# Altium integrated library Analog Devices Data Converters Digital-to-Analog Converters.IntLib: 2231 symbols (part 154 of 181)
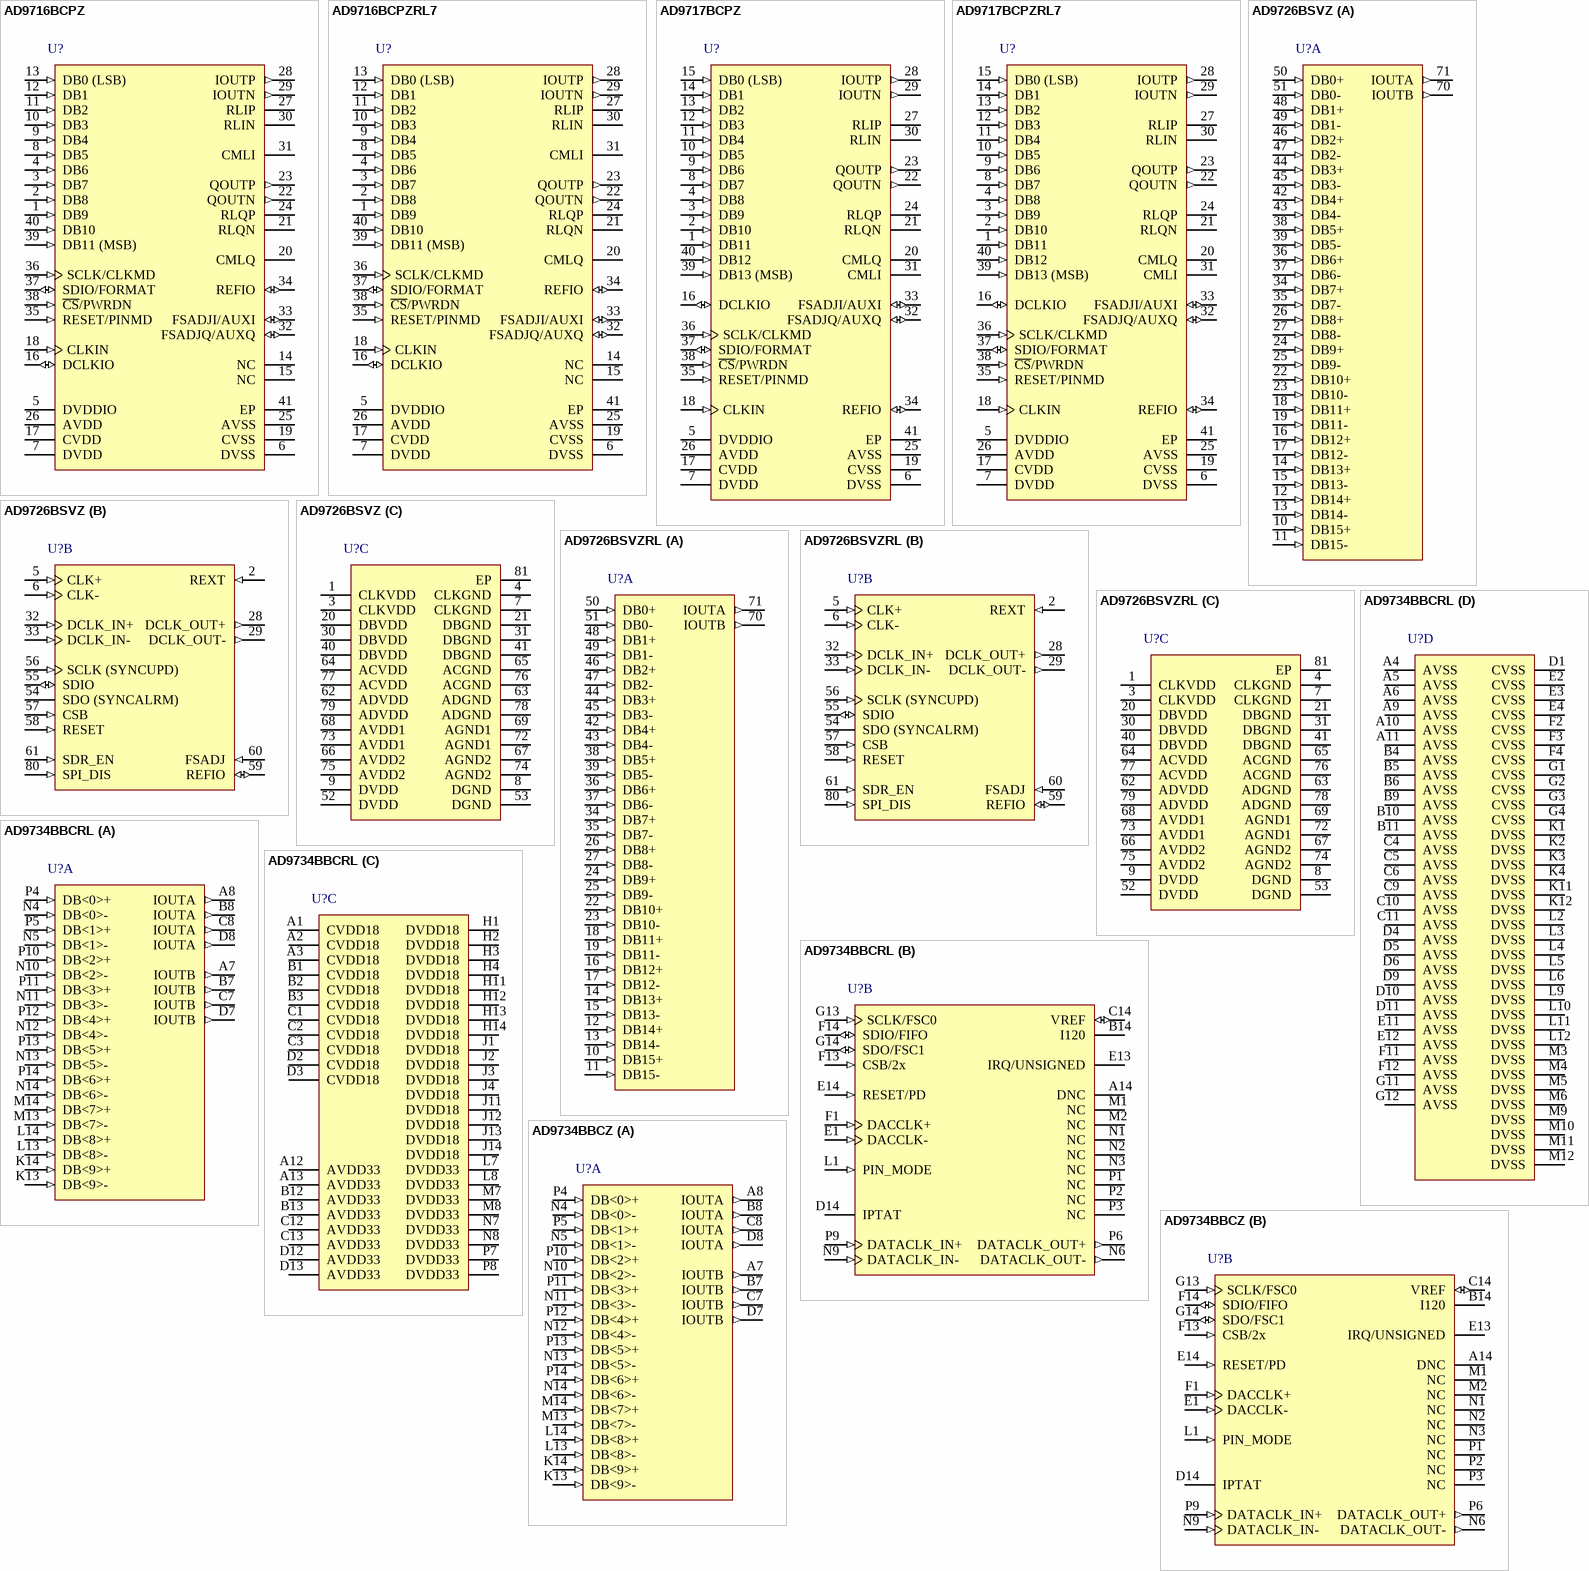
[diagram p267: symbols AD9716BCPZ to AD9734BBCZ]

## AD9734BBCRL
designator U?
Single 10-Bit Digital-to-Analog Converter, 1200 Msps, -40 to +85 degC, BC-160-1, Reel; Generic Part Number: AD9734; Manufacturer: Analog Devices; PartNumber: AD9734BBCRL; # DAC Outputs: 1; Max V+: 3.47V; Op Pwr Diss: 550mW; Resolution (Bits): 10; Single Supply: Yes; DatasheetVersion: Rev.A; PackageVersion: 012006-0; PackageReference: BC-160-1; PackageDescription: 160-Ball Chip Scale Package Ball Grid Array [CSP_BGA]; Packing: Reel; RoHS: N; Mounting Technology: Surface Mount; Code_JEDEC: MO-205-AE; ComponentLink1Description: Manufacturer URL; ComponentLink1URL: http://www.analog.com/en/index.html; ComponentLink2Description: Datasheet; ComponentLink2URL: http://www.analog.com/static/imported-files/data_sheets/AD9734_9735_9736.pdf; ComponentLink3Description: Package Specification; ComponentLink3URL: http://www.analog.com/static/imported-files/packages/31243239490197BC_160_1.pdf; ComponentLink4Description: Product URL; ComponentLink4URL: http://www.analog.com/en/digital-to-analog-converters/da-converters/ad9734/products/product.html
footprint BC-160-1 (BGA, 160-Leads, Body 12x12mm, Pitch 0.8mm)
part A pins: A7 IOUTB (out) "DAC Negative Output. 10 mA to 30 mA full-scale output current.", A8 IOUTA (out) "DAC Positive Output. 10 mA to 30 mA full-scale output current.", B7 IOUTB (out) "DAC Negative Output. 10 mA to 30 mA full-scale output current.", B8 IOUTA (out) "DAC Positive Output. 10 mA to 30 mA full-scale output current.", C7 IOUTB (out) "DAC Negative Output. 10 mA to 30 mA full-scale output current.", C8 IOUTA (out) "DAC Positive Output. 10 mA to 30 mA full-scale output current.", D7 IOUTB (out) "DAC Negative Output. 10 mA to 30 mA full-scale output current.", D8 IOUTA (out) "DAC Positive Output. 10 mA to 30 mA full-scale output current.", K13 DB<9>- (in) "Negative Data Input Bit 9 (MSB). Conforms to IEEE-1596 reduced range link.", K14 DB<9>+ (in) "Positive Data Input Bit 9 (MSB). Conforms to IEEE-1596 reduced range link.", L13 DB<8>- (in) "Negative Data Input Bit 8. Conforms to IEEE-1596 reduced range link.", L14 DB<8>+ (in) "Positive Data Input Bit 8. Conforms to IEEE-1596 reduced range link.", M13 DB<7>- (in) "Negative Data Input Bit 7. Conforms to IEEE-1596 reduced range link.", M14 DB<7>+ (in) "Positive Data Input Bit 7. Conforms to IEEE-1596 reduced range link.", N4 DB<0>- (in) "Negative Data Input Bit 0 (LSB). Conforms to IEEE-1596 reduced range link.", N5 DB<1>- (in) "Negative Data Input Bit 1. Conforms to IEEE-1596 reduced range link.", N10 DB<2>- (in) "Negative Data Input Bit 2. Conforms to IEEE-1596 reduced range link.", N11 DB<3>- (in) "Negative Data Input Bit 3. Conforms to IEEE-1596 reduced range link.", N12 DB<4>- (in) "Negative Data Input Bit 4. Conforms to IEEE-1596 reduced range link.", N13 DB<5>- (in) "Negative Data Input Bit 5. Conforms to IEEE-1596 reduced range link.", N14 DB<6>- (in) "Negative Data Input Bit 6. Conforms to IEEE-1596 reduced range link.", P4 DB<0>+ (in) "Positive Data Input Bit 0 (LSB). Conforms to IEEE-1596 reduced range link.", P5 DB<1>+ (in) "Positive Data Input Bit 1. Conforms to IEEE-1596 reduced range link.", P10 DB<2>+ (in) "Positive Data Input Bit 2. Conforms to IEEE-1596 reduced range link.", P11 DB<3>+ (in) "Positive Data Input Bit 3. Conforms to IEEE-1596 reduced range link.", P12 DB<4>+ (in) "Positive Data Input Bit 4. Conforms to IEEE-1596 reduced range link.", P13 DB<5>+ (in) "Positive Data Input Bit 5. Conforms to IEEE-1596 reduced range link.", P14 DB<6>+ (in) "Positive Data Input Bit 6. Conforms to IEEE-1596 reduced range link."
part B pins: A14 DNC "Do Not Connect.", B14 I120 "Nominal 1.2 V Reference. Tie to analog ground via 10 kohm resistor to generate a 120 uA reference current.", C14 VREF (io) "Band Gap Voltage Reference I/O. Tie to analog ground via 1 nF capacitor; output impedance approximately 5 kohm.", D14 IPTAT "Factory Test Pin. Output current, proportional to absolute temperature, is approximately 10 uA at 25degreesC with a slope of approximately 20 nA/degreesC.", E1 DACCLK- (in) "Negative DAC Clock Input (DACCLK).", E13 IRQ/UNSIGNED (oc) "If PIN_MODE = 0, IRQ: Active low open-drain interrupt request output, pull up to DVDD33 with 10 kohm resistor. If PIN_MODE = 1, UNSIGNED: Digital input pin where 0 = twos complement input data format, 1 = unsigned.", E14 RESET/PD (in) "If PIN_MODE = 0, RESET: 1 resets the AD9734. If PIN_MODE = 1, PD: 1 puts the AD9734 in the power-down state.", F1 DACCLK+ (in) "Positive DAC Clock Input (DACCLK).", F13 CSB/2x (in) "See the Serial Peripheral Interface section and the Pin Mode Operation section for pin description.", F14 SDIO/FIFO (io) "See the Pin Mode Operation section for pin description.", G13 SCLK/FSC0 (in) "See the Pin Mode Operation section for pin description.", G14 SDO/FSC1 (io) "See the Pin Mode Operation section for pin description.", L1 PIN_MODE (in) "0 = SPI Mode. SPI is enabled. 1 = PIN Mode. SPI is disabled; direct pin control.", M1 NC "No Connect.", M2 NC "No Connect.", N1 NC "No Connect.", N2 NC "No Connect.", N3 NC "No Connect.", N6 DATACLK_OUT- (out) "Negative Data Output Clock. Conforms to IEEE-1596 reduced range link.", N9 DATACLK_IN- (in) "Negative Data Input Clock. Conforms to IEEE-1596 reduced range link.", P1 NC "No Connect.", P2 NC "No Connect.", P3 NC "No Connect.", P6 DATACLK_OUT+ (out) "Positive Data Output Clock. Conforms to IEEE-1596 reduced range link.", P9 DATACLK_IN+ (in) "Positive Data Input Clock. Conforms to IEEE-1596 reduced range link."
part C pins: A1 CVDD18 (power) "1.8 V Clock Supply.", A2 CVDD18 (power) "1.8 V Clock Supply.", A3 CVDD18 (power) "1.8 V Clock Supply.", A12 AVDD33 (power) "3.3 V Analog Supply.", A13 AVDD33 (power) "3.3 V Analog Supply.", B1 CVDD18 (power) "1.8 V Clock Supply.", B2 CVDD18 (power) "1.8 V Clock Supply.", B3 CVDD18 (power) "1.8 V Clock Supply.", B12 AVDD33 (power) "3.3 V Analog Supply.", B13 AVDD33 (power) "3.3 V Analog Supply.", C1 CVDD18 (power) "1.8 V Clock Supply.", C2 CVDD18 (power) "1.8 V Clock Supply.", C3 CVDD18 (power) "1.8 V Clock Supply.", C12 AVDD33 (power) "3.3 V Analog Supply.", C13 AVDD33 (power) "3.3 V Analog Supply.", D2 CVDD18 (power) "1.8 V Clock Supply.", D3 CVDD18 (power) "1.8 V Clock Supply.", D12 AVDD33 (power) "3.3 V Analog Supply.", D13 AVDD33 (power) "3.3 V Analog Supply.", H1 DVDD18 (power) "1.8 V Digital Supply.", H2 DVDD18 (power) "1.8 V Digital Supply.", H3 DVDD18 (power) "1.8 V Digital Supply.", H4 DVDD18 (power) "1.8 V Digital Supply.", H11 DVDD18 (power) "1.8 V Digital Supply.", H12 DVDD18 (power) "1.8 V Digital Supply.", H13 DVDD18 (power) "1.8 V Digital Supply.", H14 DVDD18 (power) "1.8 V Digital Supply.", J1 DVDD18 (power) "1.8 V Digital Supply.", J2 DVDD18 (power) "1.8 V Digital Supply.", J3 DVDD18 (power) "1.8 V Digital Supply.", J4 DVDD18 (power) "1.8 V Digital Supply.", J11 DVDD18 (power) "1.8 V Digital Supply.", J12 DVDD18 (power) "1.8 V Digital Supply.", J13 DVDD18 (power) "1.8 V Digital Supply.", J14 DVDD18 (power) "1.8 V Digital Supply.", L7 DVDD33 (power) "3.3 V Digital Supply.", L8 DVDD33 (power) "3.3 V Digital Supply.", M7 DVDD33 (power) "3.3 V Digital Supply.", M8 DVDD33 (power) "3.3 V Digital Supply.", N7 DVDD33 (power) "3.3 V Digital Supply.", N8 DVDD33 (power) "3.3 V Digital Supply.", P7 DVDD33 (power) "3.3 V Digital Supply.", P8 DVDD33 (power) "3.3 V Digital Supply."
part D pins: A4 AVSS (power) "Analog Supply Ground.", A5 AVSS (power) "Analog Supply Ground.", A6 AVSS (power) "Analog Supply Ground.", A9 AVSS (power) "Analog Supply Ground.", A10 AVSS (power) "Analog Supply Ground.", A11 AVSS (power) "Analog Supply Ground.", B4 AVSS (power) "Analog Supply Ground.", B5 AVSS (power) "Analog Supply Ground.", B6 AVSS (power) "Analog Supply Ground.", B9 AVSS (power) "Analog Supply Ground.", B10 AVSS (power) "Analog Supply Ground.", B11 AVSS (power) "Analog Supply Ground.", C4 AVSS (power) "Analog Supply Ground.", C5 AVSS (power) "Analog Supply Ground.", C6 AVSS (power) "Analog Supply Ground.", C9 AVSS (power) "Analog Supply Ground.", C10 AVSS (power) "Analog Supply Ground.", C11 AVSS (power) "Analog Supply Ground.", D1 CVSS (power) "Clock Supply Ground.", D4 AVSS (power) "Analog Supply Ground.", D5 AVSS (power) "Analog Supply Ground.", D6 AVSS (power) "Analog Supply Ground.", D9 AVSS (power) "Analog Supply Ground.", D10 AVSS (power) "Analog Supply Ground.", D11 AVSS (power) "Analog Supply Ground.", E2 CVSS (power) "Clock Supply Ground.", E3 CVSS (power) "Clock Supply Ground.", E4 CVSS (power) "Clock Supply Ground.", E11 AVSS (power) "Analog Supply Ground Shield. Tie to AVSS at the DAC.", E12 AVSS (power) "Analog Supply Ground Shield. Tie to AVSS at the DAC.", F2 CVSS (power) "Clock Supply Ground.", F3 CVSS (power) "Clock Supply Ground.", F4 CVSS (power) "Clock Supply Ground.", F11 AVSS (power) "Analog Supply Ground Shield. Tie to AVSS at the DAC.", F12 AVSS (power) "Analog Supply Ground Shield. Tie to AVSS at the DAC.", G1 CVSS (power) "Clock Supply Ground.", G2 CVSS (power) "Clock Supply Ground.", G3 CVSS (power) "Clock Supply Ground.", G4 CVSS (power) "Clock Supply Ground.", G11 AVSS (power) "Analog Supply Ground Shield. Tie to AVSS at the DAC.", G12 AVSS (power) "Analog Supply Ground Shield. Tie to AVSS at the DAC.", K1 DVSS (power) "Digital Supply Ground.", K2 DVSS (power) "Digital Supply Ground.", K3 DVSS (power) "Digital Supply Ground.", K4 DVSS (power) "Digital Supply Ground.", K11 DVSS (power) "Digital Supply Ground.", K12 DVSS (power) "Digital Supply Ground.", L2 DVSS (power) "Digital Supply Ground.", L3 DVSS (power) "Digital Supply Ground.", L4 DVSS (power) "Digital Supply Ground.", L5 DVSS (power) "Digital Supply Ground.", L6 DVSS (power) "Digital Supply Ground.", L9 DVSS (power) "Digital Supply Ground.", L10 DVSS (power) "Digital Supply Ground.", L11 DVSS (power) "Digital Supply Ground.", L12 DVSS (power) "Digital Supply Ground.", M3 DVSS (power) "Digital Supply Ground.", M4 DVSS (power) "Digital Supply Ground.", M5 DVSS (power) "Digital Supply Ground.", M6 DVSS (power) "Digital Supply Ground.", M9 DVSS (power) "Digital Supply Ground.", M10 DVSS (power) "Digital Supply Ground.", M11 DVSS (power) "Digital Supply Ground.", M12 DVSS (power) "Digital Supply Ground."

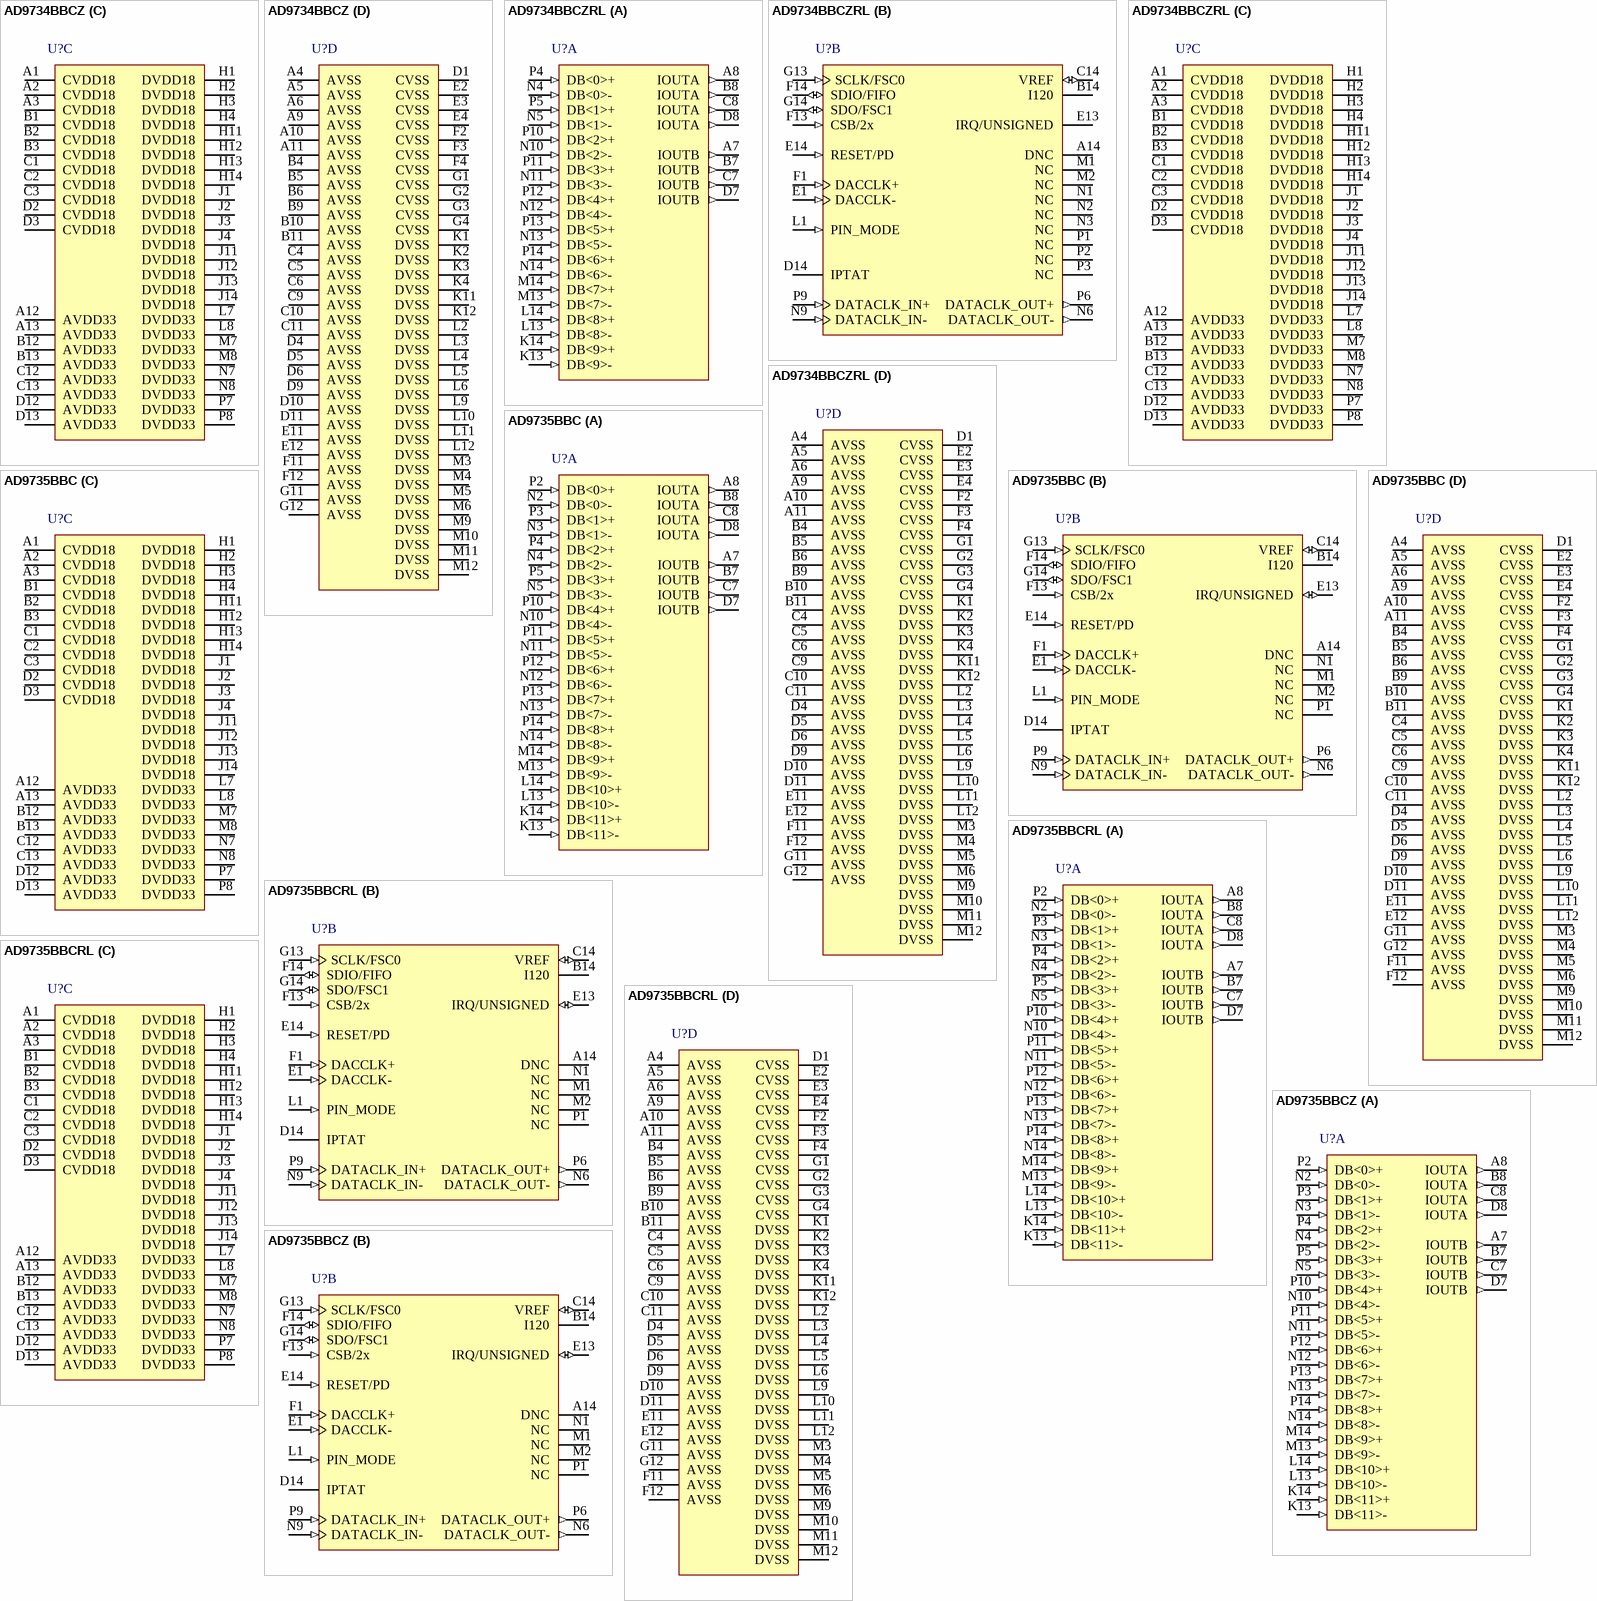
[diagram p89: symbols AD9734BBCZ to AD9735BBCZ]

## AD9734BBCZ
designator U?
Single 10-Bit Digital-to-Analog Converter, 1200 Msps, -40 to +85 degC, BC-160-1, Pb-Free, Tray; Generic Part Number: AD9734; Manufacturer: Analog Devices; PartNumber: AD9734BBCZ; # DAC Outputs: 1; Max V+: 3.47V; Op Pwr Diss: 550mW; Resolution (Bits): 10; Single Supply: Yes; DatasheetVersion: Rev.A; PackageVersion: 012006-0; PackageReference: BC-160-1; PackageDescription: 160-Ball Chip Scale Package Ball Grid Array [CSP_BGA]; Supplier 1: Digi-Key; Supplier Part Number 1: AD9734BBCZ-ND; Supplier 2: Mouser; Supplier Part Number 2: 584-AD9734BBCZ; Packing: Tray; RoHS: Y; Mounting Technology: Surface Mount; Code_JEDEC: MO-205-AE; ComponentLink1Description: Manufacturer URL; ComponentLink1URL: http://www.analog.com/en/index.html; ComponentLink2Description: Datasheet; ComponentLink2URL: http://www.analog.com/static/imported-files/data_sheets/AD9734_9735_9736.pdf; ComponentLink3Description: Package Specification; ComponentLink3URL: http://www.analog.com/static/imported-files/packages/31243239490197BC_160_1.pdf; ComponentLink4Description: Product URL; ComponentLink4URL: http://www.analog.com/en/digital-to-analog-converters/da-converters/ad9734/products/product.html
footprint BC-160-1 (BGA, 160-Leads, Body 12x12mm, Pitch 0.8mm)
part A pins: A7 IOUTB (out) "DAC Negative Output. 10 mA to 30 mA full-scale output current.", A8 IOUTA (out) "DAC Positive Output. 10 mA to 30 mA full-scale output current.", B7 IOUTB (out) "DAC Negative Output. 10 mA to 30 mA full-scale output current.", B8 IOUTA (out) "DAC Positive Output. 10 mA to 30 mA full-scale output current.", C7 IOUTB (out) "DAC Negative Output. 10 mA to 30 mA full-scale output current.", C8 IOUTA (out) "DAC Positive Output. 10 mA to 30 mA full-scale output current.", D7 IOUTB (out) "DAC Negative Output. 10 mA to 30 mA full-scale output current.", D8 IOUTA (out) "DAC Positive Output. 10 mA to 30 mA full-scale output current.", K13 DB<9>- (in) "Negative Data Input Bit 9 (MSB). Conforms to IEEE-1596 reduced range link.", K14 DB<9>+ (in) "Positive Data Input Bit 9 (MSB). Conforms to IEEE-1596 reduced range link.", L13 DB<8>- (in) "Negative Data Input Bit 8. Conforms to IEEE-1596 reduced range link.", L14 DB<8>+ (in) "Positive Data Input Bit 8. Conforms to IEEE-1596 reduced range link.", M13 DB<7>- (in) "Negative Data Input Bit 7. Conforms to IEEE-1596 reduced range link.", M14 DB<7>+ (in) "Positive Data Input Bit 7. Conforms to IEEE-1596 reduced range link.", N4 DB<0>- (in) "Negative Data Input Bit 0 (LSB). Conforms to IEEE-1596 reduced range link.", N5 DB<1>- (in) "Negative Data Input Bit 1. Conforms to IEEE-1596 reduced range link.", N10 DB<2>- (in) "Negative Data Input Bit 2. Conforms to IEEE-1596 reduced range link.", N11 DB<3>- (in) "Negative Data Input Bit 3. Conforms to IEEE-1596 reduced range link.", N12 DB<4>- (in) "Negative Data Input Bit 4. Conforms to IEEE-1596 reduced range link.", N13 DB<5>- (in) "Negative Data Input Bit 5. Conforms to IEEE-1596 reduced range link.", N14 DB<6>- (in) "Negative Data Input Bit 6. Conforms to IEEE-1596 reduced range link.", P4 DB<0>+ (in) "Positive Data Input Bit 0 (LSB). Conforms to IEEE-1596 reduced range link.", P5 DB<1>+ (in) "Positive Data Input Bit 1. Conforms to IEEE-1596 reduced range link.", P10 DB<2>+ (in) "Positive Data Input Bit 2. Conforms to IEEE-1596 reduced range link.", P11 DB<3>+ (in) "Positive Data Input Bit 3. Conforms to IEEE-1596 reduced range link.", P12 DB<4>+ (in) "Positive Data Input Bit 4. Conforms to IEEE-1596 reduced range link.", P13 DB<5>+ (in) "Positive Data Input Bit 5. Conforms to IEEE-1596 reduced range link.", P14 DB<6>+ (in) "Positive Data Input Bit 6. Conforms to IEEE-1596 reduced range link."
part B pins: A14 DNC "Do Not Connect.", B14 I120 "Nominal 1.2 V Reference. Tie to analog ground via 10 kohm resistor to generate a 120 uA reference current.", C14 VREF (io) "Band Gap Voltage Reference I/O. Tie to analog ground via 1 nF capacitor; output impedance approximately 5 kohm.", D14 IPTAT "Factory Test Pin. Output current, proportional to absolute temperature, is approximately 10 uA at 25degreesC with a slope of approximately 20 nA/degreesC.", E1 DACCLK- (in) "Negative DAC Clock Input (DACCLK).", E13 IRQ/UNSIGNED (oc) "If PIN_MODE = 0, IRQ: Active low open-drain interrupt request output, pull up to DVDD33 with 10 kohm resistor. If PIN_MODE = 1, UNSIGNED: Digital input pin where 0 = twos complement input data format, 1 = unsigned.", E14 RESET/PD (in) "If PIN_MODE = 0, RESET: 1 resets the AD9734. If PIN_MODE = 1, PD: 1 puts the AD9734 in the power-down state.", F1 DACCLK+ (in) "Positive DAC Clock Input (DACCLK).", F13 CSB/2x (in) "See the Serial Peripheral Interface section and the Pin Mode Operation section for pin description.", F14 SDIO/FIFO (io) "See the Pin Mode Operation section for pin description.", G13 SCLK/FSC0 (in) "See the Pin Mode Operation section for pin description.", G14 SDO/FSC1 (io) "See the Pin Mode Operation section for pin description.", L1 PIN_MODE (in) "0 = SPI Mode. SPI is enabled. 1 = PIN Mode. SPI is disabled; direct pin control.", M1 NC "No Connect.", M2 NC "No Connect.", N1 NC "No Connect.", N2 NC "No Connect.", N3 NC "No Connect.", N6 DATACLK_OUT- (out) "Negative Data Output Clock. Conforms to IEEE-1596 reduced range link.", N9 DATACLK_IN- (in) "Negative Data Input Clock. Conforms to IEEE-1596 reduced range link.", P1 NC "No Connect.", P2 NC "No Connect.", P3 NC "No Connect.", P6 DATACLK_OUT+ (out) "Positive Data Output Clock. Conforms to IEEE-1596 reduced range link.", P9 DATACLK_IN+ (in) "Positive Data Input Clock. Conforms to IEEE-1596 reduced range link."
part C pins: A1 CVDD18 (power) "1.8 V Clock Supply.", A2 CVDD18 (power) "1.8 V Clock Supply.", A3 CVDD18 (power) "1.8 V Clock Supply.", A12 AVDD33 (power) "3.3 V Analog Supply.", A13 AVDD33 (power) "3.3 V Analog Supply.", B1 CVDD18 (power) "1.8 V Clock Supply.", B2 CVDD18 (power) "1.8 V Clock Supply.", B3 CVDD18 (power) "1.8 V Clock Supply.", B12 AVDD33 (power) "3.3 V Analog Supply.", B13 AVDD33 (power) "3.3 V Analog Supply.", C1 CVDD18 (power) "1.8 V Clock Supply.", C2 CVDD18 (power) "1.8 V Clock Supply.", C3 CVDD18 (power) "1.8 V Clock Supply.", C12 AVDD33 (power) "3.3 V Analog Supply.", C13 AVDD33 (power) "3.3 V Analog Supply.", D2 CVDD18 (power) "1.8 V Clock Supply.", D3 CVDD18 (power) "1.8 V Clock Supply.", D12 AVDD33 (power) "3.3 V Analog Supply.", D13 AVDD33 (power) "3.3 V Analog Supply.", H1 DVDD18 (power) "1.8 V Digital Supply.", H2 DVDD18 (power) "1.8 V Digital Supply.", H3 DVDD18 (power) "1.8 V Digital Supply.", H4 DVDD18 (power) "1.8 V Digital Supply.", H11 DVDD18 (power) "1.8 V Digital Supply.", H12 DVDD18 (power) "1.8 V Digital Supply.", H13 DVDD18 (power) "1.8 V Digital Supply.", H14 DVDD18 (power) "1.8 V Digital Supply.", J1 DVDD18 (power) "1.8 V Digital Supply.", J2 DVDD18 (power) "1.8 V Digital Supply.", J3 DVDD18 (power) "1.8 V Digital Supply.", J4 DVDD18 (power) "1.8 V Digital Supply.", J11 DVDD18 (power) "1.8 V Digital Supply.", J12 DVDD18 (power) "1.8 V Digital Supply.", J13 DVDD18 (power) "1.8 V Digital Supply.", J14 DVDD18 (power) "1.8 V Digital Supply.", L7 DVDD33 (power) "3.3 V Digital Supply.", L8 DVDD33 (power) "3.3 V Digital Supply.", M7 DVDD33 (power) "3.3 V Digital Supply.", M8 DVDD33 (power) "3.3 V Digital Supply.", N7 DVDD33 (power) "3.3 V Digital Supply.", N8 DVDD33 (power) "3.3 V Digital Supply.", P7 DVDD33 (power) "3.3 V Digital Supply.", P8 DVDD33 (power) "3.3 V Digital Supply."
part D pins: A4 AVSS (power) "Analog Supply Ground.", A5 AVSS (power) "Analog Supply Ground.", A6 AVSS (power) "Analog Supply Ground.", A9 AVSS (power) "Analog Supply Ground.", A10 AVSS (power) "Analog Supply Ground.", A11 AVSS (power) "Analog Supply Ground.", B4 AVSS (power) "Analog Supply Ground.", B5 AVSS (power) "Analog Supply Ground.", B6 AVSS (power) "Analog Supply Ground.", B9 AVSS (power) "Analog Supply Ground.", B10 AVSS (power) "Analog Supply Ground.", B11 AVSS (power) "Analog Supply Ground.", C4 AVSS (power) "Analog Supply Ground.", C5 AVSS (power) "Analog Supply Ground.", C6 AVSS (power) "Analog Supply Ground.", C9 AVSS (power) "Analog Supply Ground.", C10 AVSS (power) "Analog Supply Ground.", C11 AVSS (power) "Analog Supply Ground.", D1 CVSS (power) "Clock Supply Ground.", D4 AVSS (power) "Analog Supply Ground.", D5 AVSS (power) "Analog Supply Ground.", D6 AVSS (power) "Analog Supply Ground.", D9 AVSS (power) "Analog Supply Ground.", D10 AVSS (power) "Analog Supply Ground.", D11 AVSS (power) "Analog Supply Ground.", E2 CVSS (power) "Clock Supply Ground.", E3 CVSS (power) "Clock Supply Ground.", E4 CVSS (power) "Clock Supply Ground.", E11 AVSS (power) "Analog Supply Ground Shield. Tie to AVSS at the DAC.", E12 AVSS (power) "Analog Supply Ground Shield. Tie to AVSS at the DAC.", F2 CVSS (power) "Clock Supply Ground.", F3 CVSS (power) "Clock Supply Ground.", F4 CVSS (power) "Clock Supply Ground.", F11 AVSS (power) "Analog Supply Ground Shield. Tie to AVSS at the DAC.", F12 AVSS (power) "Analog Supply Ground Shield. Tie to AVSS at the DAC.", G1 CVSS (power) "Clock Supply Ground.", G2 CVSS (power) "Clock Supply Ground.", G3 CVSS (power) "Clock Supply Ground.", G4 CVSS (power) "Clock Supply Ground.", G11 AVSS (power) "Analog Supply Ground Shield. Tie to AVSS at the DAC.", G12 AVSS (power) "Analog Supply Ground Shield. Tie to AVSS at the DAC.", K1 DVSS (power) "Digital Supply Ground.", K2 DVSS (power) "Digital Supply Ground.", K3 DVSS (power) "Digital Supply Ground.", K4 DVSS (power) "Digital Supply Ground.", K11 DVSS (power) "Digital Supply Ground.", K12 DVSS (power) "Digital Supply Ground.", L2 DVSS (power) "Digital Supply Ground.", L3 DVSS (power) "Digital Supply Ground.", L4 DVSS (power) "Digital Supply Ground.", L5 DVSS (power) "Digital Supply Ground.", L6 DVSS (power) "Digital Supply Ground.", L9 DVSS (power) "Digital Supply Ground.", L10 DVSS (power) "Digital Supply Ground.", L11 DVSS (power) "Digital Supply Ground.", L12 DVSS (power) "Digital Supply Ground.", M3 DVSS (power) "Digital Supply Ground.", M4 DVSS (power) "Digital Supply Ground.", M5 DVSS (power) "Digital Supply Ground.", M6 DVSS (power) "Digital Supply Ground.", M9 DVSS (power) "Digital Supply Ground.", M10 DVSS (power) "Digital Supply Ground.", M11 DVSS (power) "Digital Supply Ground.", M12 DVSS (power) "Digital Supply Ground."

## AD9734BBCZRL
designator U?
Single 10-Bit Digital-to-Analog Converter, 1200 Msps, -40 to +85 degC, BC-160-1, Pb-Free, Reel; Generic Part Number: AD9734; Manufacturer: Analog Devices; PartNumber: AD9734BBCZRL; # DAC Outputs: 1; Max V+: 3.47V; Op Pwr Diss: 550mW; Resolution (Bits): 10; Single Supply: Yes; DatasheetVersion: Rev.A; PackageVersion: 012006-0; PackageReference: BC-160-1; PackageDescription: 160-Ball Chip Scale Package Ball Grid Array [CSP_BGA]; Supplier 1: Digi-Key; Supplier Part Number 1: AD9734BBCZRL-ND; Supplier 2: Mouser; Supplier Part Number 2: 584-AD9734BBCZR; Packing: Reel; RoHS: Y; Mounting Technology: Surface Mount; Code_JEDEC: MO-205-AE; ComponentLink1Description: Manufacturer URL; ComponentLink1URL: http://www.analog.com/en/index.html; ComponentLink2Description: Datasheet; ComponentLink2URL: http://www.analog.com/static/imported-files/data_sheets/AD9734_9735_9736.pdf; ComponentLink3Description: Package Specification; ComponentLink3URL: http://www.analog.com/static/imported-files/packages/31243239490197BC_160_1.pdf; ComponentLink4Description: Product URL; ComponentLink4URL: http://www.analog.com/en/digital-to-analog-converters/da-converters/ad9734/products/product.html
footprint BC-160-1 (BGA, 160-Leads, Body 12x12mm, Pitch 0.8mm)
part A pins: A7 IOUTB (out) "DAC Negative Output. 10 mA to 30 mA full-scale output current.", A8 IOUTA (out) "DAC Positive Output. 10 mA to 30 mA full-scale output current.", B7 IOUTB (out) "DAC Negative Output. 10 mA to 30 mA full-scale output current.", B8 IOUTA (out) "DAC Positive Output. 10 mA to 30 mA full-scale output current.", C7 IOUTB (out) "DAC Negative Output. 10 mA to 30 mA full-scale output current.", C8 IOUTA (out) "DAC Positive Output. 10 mA to 30 mA full-scale output current.", D7 IOUTB (out) "DAC Negative Output. 10 mA to 30 mA full-scale output current.", D8 IOUTA (out) "DAC Positive Output. 10 mA to 30 mA full-scale output current.", K13 DB<9>- (in) "Negative Data Input Bit 9 (MSB). Conforms to IEEE-1596 reduced range link.", K14 DB<9>+ (in) "Positive Data Input Bit 9 (MSB). Conforms to IEEE-1596 reduced range link.", L13 DB<8>- (in) "Negative Data Input Bit 8. Conforms to IEEE-1596 reduced range link.", L14 DB<8>+ (in) "Positive Data Input Bit 8. Conforms to IEEE-1596 reduced range link.", M13 DB<7>- (in) "Negative Data Input Bit 7. Conforms to IEEE-1596 reduced range link.", M14 DB<7>+ (in) "Positive Data Input Bit 7. Conforms to IEEE-1596 reduced range link.", N4 DB<0>- (in) "Negative Data Input Bit 0 (LSB). Conforms to IEEE-1596 reduced range link.", N5 DB<1>- (in) "Negative Data Input Bit 1. Conforms to IEEE-1596 reduced range link.", N10 DB<2>- (in) "Negative Data Input Bit 2. Conforms to IEEE-1596 reduced range link.", N11 DB<3>- (in) "Negative Data Input Bit 3. Conforms to IEEE-1596 reduced range link.", N12 DB<4>- (in) "Negative Data Input Bit 4. Conforms to IEEE-1596 reduced range link.", N13 DB<5>- (in) "Negative Data Input Bit 5. Conforms to IEEE-1596 reduced range link.", N14 DB<6>- (in) "Negative Data Input Bit 6. Conforms to IEEE-1596 reduced range link.", P4 DB<0>+ (in) "Positive Data Input Bit 0 (LSB). Conforms to IEEE-1596 reduced range link.", P5 DB<1>+ (in) "Positive Data Input Bit 1. Conforms to IEEE-1596 reduced range link.", P10 DB<2>+ (in) "Positive Data Input Bit 2. Conforms to IEEE-1596 reduced range link.", P11 DB<3>+ (in) "Positive Data Input Bit 3. Conforms to IEEE-1596 reduced range link.", P12 DB<4>+ (in) "Positive Data Input Bit 4. Conforms to IEEE-1596 reduced range link.", P13 DB<5>+ (in) "Positive Data Input Bit 5. Conforms to IEEE-1596 reduced range link.", P14 DB<6>+ (in) "Positive Data Input Bit 6. Conforms to IEEE-1596 reduced range link."
part B pins: A14 DNC "Do Not Connect.", B14 I120 "Nominal 1.2 V Reference. Tie to analog ground via 10 kohm resistor to generate a 120 uA reference current.", C14 VREF (io) "Band Gap Voltage Reference I/O. Tie to analog ground via 1 nF capacitor; output impedance approximately 5 kohm.", D14 IPTAT "Factory Test Pin. Output current, proportional to absolute temperature, is approximately 10 uA at 25degreesC with a slope of approximately 20 nA/degreesC.", E1 DACCLK- (in) "Negative DAC Clock Input (DACCLK).", E13 IRQ/UNSIGNED (oc) "If PIN_MODE = 0, IRQ: Active low open-drain interrupt request output, pull up to DVDD33 with 10 kohm resistor. If PIN_MODE = 1, UNSIGNED: Digital input pin where 0 = twos complement input data format, 1 = unsigned.", E14 RESET/PD (in) "If PIN_MODE = 0, RESET: 1 resets the AD9734. If PIN_MODE = 1, PD: 1 puts the AD9734 in the power-down state.", F1 DACCLK+ (in) "Positive DAC Clock Input (DACCLK).", F13 CSB/2x (in) "See the Serial Peripheral Interface section and the Pin Mode Operation section for pin description.", F14 SDIO/FIFO (io) "See the Pin Mode Operation section for pin description.", G13 SCLK/FSC0 (in) "See the Pin Mode Operation section for pin description.", G14 SDO/FSC1 (io) "See the Pin Mode Operation section for pin description.", L1 PIN_MODE (in) "0 = SPI Mode. SPI is enabled. 1 = PIN Mode. SPI is disabled; direct pin control.", M1 NC "No Connect.", M2 NC "No Connect.", N1 NC "No Connect.", N2 NC "No Connect.", N3 NC "No Connect.", N6 DATACLK_OUT- (out) "Negative Data Output Clock. Conforms to IEEE-1596 reduced range link.", N9 DATACLK_IN- (in) "Negative Data Input Clock. Conforms to IEEE-1596 reduced range link.", P1 NC "No Connect.", P2 NC "No Connect.", P3 NC "No Connect.", P6 DATACLK_OUT+ (out) "Positive Data Output Clock. Conforms to IEEE-1596 reduced range link.", P9 DATACLK_IN+ (in) "Positive Data Input Clock. Conforms to IEEE-1596 reduced range link."
part C pins: A1 CVDD18 (power) "1.8 V Clock Supply.", A2 CVDD18 (power) "1.8 V Clock Supply.", A3 CVDD18 (power) "1.8 V Clock Supply.", A12 AVDD33 (power) "3.3 V Analog Supply.", A13 AVDD33 (power) "3.3 V Analog Supply.", B1 CVDD18 (power) "1.8 V Clock Supply.", B2 CVDD18 (power) "1.8 V Clock Supply.", B3 CVDD18 (power) "1.8 V Clock Supply.", B12 AVDD33 (power) "3.3 V Analog Supply.", B13 AVDD33 (power) "3.3 V Analog Supply.", C1 CVDD18 (power) "1.8 V Clock Supply.", C2 CVDD18 (power) "1.8 V Clock Supply.", C3 CVDD18 (power) "1.8 V Clock Supply.", C12 AVDD33 (power) "3.3 V Analog Supply.", C13 AVDD33 (power) "3.3 V Analog Supply.", D2 CVDD18 (power) "1.8 V Clock Supply.", D3 CVDD18 (power) "1.8 V Clock Supply.", D12 AVDD33 (power) "3.3 V Analog Supply.", D13 AVDD33 (power) "3.3 V Analog Supply.", H1 DVDD18 (power) "1.8 V Digital Supply.", H2 DVDD18 (power) "1.8 V Digital Supply.", H3 DVDD18 (power) "1.8 V Digital Supply.", H4 DVDD18 (power) "1.8 V Digital Supply.", H11 DVDD18 (power) "1.8 V Digital Supply.", H12 DVDD18 (power) "1.8 V Digital Supply.", H13 DVDD18 (power) "1.8 V Digital Supply.", H14 DVDD18 (power) "1.8 V Digital Supply.", J1 DVDD18 (power) "1.8 V Digital Supply.", J2 DVDD18 (power) "1.8 V Digital Supply.", J3 DVDD18 (power) "1.8 V Digital Supply.", J4 DVDD18 (power) "1.8 V Digital Supply.", J11 DVDD18 (power) "1.8 V Digital Supply.", J12 DVDD18 (power) "1.8 V Digital Supply.", J13 DVDD18 (power) "1.8 V Digital Supply.", J14 DVDD18 (power) "1.8 V Digital Supply.", L7 DVDD33 (power) "3.3 V Digital Supply.", L8 DVDD33 (power) "3.3 V Digital Supply.", M7 DVDD33 (power) "3.3 V Digital Supply.", M8 DVDD33 (power) "3.3 V Digital Supply.", N7 DVDD33 (power) "3.3 V Digital Supply.", N8 DVDD33 (power) "3.3 V Digital Supply.", P7 DVDD33 (power) "3.3 V Digital Supply.", P8 DVDD33 (power) "3.3 V Digital Supply."
part D pins: A4 AVSS (power) "Analog Supply Ground.", A5 AVSS (power) "Analog Supply Ground.", A6 AVSS (power) "Analog Supply Ground.", A9 AVSS (power) "Analog Supply Ground.", A10 AVSS (power) "Analog Supply Ground.", A11 AVSS (power) "Analog Supply Ground.", B4 AVSS (power) "Analog Supply Ground.", B5 AVSS (power) "Analog Supply Ground.", B6 AVSS (power) "Analog Supply Ground.", B9 AVSS (power) "Analog Supply Ground.", B10 AVSS (power) "Analog Supply Ground.", B11 AVSS (power) "Analog Supply Ground.", C4 AVSS (power) "Analog Supply Ground.", C5 AVSS (power) "Analog Supply Ground.", C6 AVSS (power) "Analog Supply Ground.", C9 AVSS (power) "Analog Supply Ground.", C10 AVSS (power) "Analog Supply Ground.", C11 AVSS (power) "Analog Supply Ground.", D1 CVSS (power) "Clock Supply Ground.", D4 AVSS (power) "Analog Supply Ground.", D5 AVSS (power) "Analog Supply Ground.", D6 AVSS (power) "Analog Supply Ground.", D9 AVSS (power) "Analog Supply Ground.", D10 AVSS (power) "Analog Supply Ground.", D11 AVSS (power) "Analog Supply Ground.", E2 CVSS (power) "Clock Supply Ground.", E3 CVSS (power) "Clock Supply Ground.", E4 CVSS (power) "Clock Supply Ground.", E11 AVSS (power) "Analog Supply Ground Shield. Tie to AVSS at the DAC.", E12 AVSS (power) "Analog Supply Ground Shield. Tie to AVSS at the DAC.", F2 CVSS (power) "Clock Supply Ground.", F3 CVSS (power) "Clock Supply Ground.", F4 CVSS (power) "Clock Supply Ground.", F11 AVSS (power) "Analog Supply Ground Shield. Tie to AVSS at the DAC.", F12 AVSS (power) "Analog Supply Ground Shield. Tie to AVSS at the DAC.", G1 CVSS (power) "Clock Supply Ground.", G2 CVSS (power) "Clock Supply Ground.", G3 CVSS (power) "Clock Supply Ground.", G4 CVSS (power) "Clock Supply Ground.", G11 AVSS (power) "Analog Supply Ground Shield. Tie to AVSS at the DAC.", G12 AVSS (power) "Analog Supply Ground Shield. Tie to AVSS at the DAC.", K1 DVSS (power) "Digital Supply Ground.", K2 DVSS (power) "Digital Supply Ground.", K3 DVSS (power) "Digital Supply Ground.", K4 DVSS (power) "Digital Supply Ground.", K11 DVSS (power) "Digital Supply Ground.", K12 DVSS (power) "Digital Supply Ground.", L2 DVSS (power) "Digital Supply Ground.", L3 DVSS (power) "Digital Supply Ground.", L4 DVSS (power) "Digital Supply Ground.", L5 DVSS (power) "Digital Supply Ground.", L6 DVSS (power) "Digital Supply Ground.", L9 DVSS (power) "Digital Supply Ground.", L10 DVSS (power) "Digital Supply Ground.", L11 DVSS (power) "Digital Supply Ground.", L12 DVSS (power) "Digital Supply Ground.", M3 DVSS (power) "Digital Supply Ground.", M4 DVSS (power) "Digital Supply Ground.", M5 DVSS (power) "Digital Supply Ground.", M6 DVSS (power) "Digital Supply Ground.", M9 DVSS (power) "Digital Supply Ground.", M10 DVSS (power) "Digital Supply Ground.", M11 DVSS (power) "Digital Supply Ground.", M12 DVSS (power) "Digital Supply Ground."

## AD9735BBC
designator U?
Single 12-Bit Digital-to-Analog Converter, 1200 Msps, -40 to +85 degC, BC-160-1, Tray; Generic Part Number: AD9735; Manufacturer: Analog Devices; PartNumber: AD9735BBC; # DAC Outputs: 1; Max V+: 3.47V; Op Pwr Diss: 550mW; Resolution (Bits): 12; Single Supply: Yes; DatasheetVersion: Rev.A; PackageVersion: 012006-0; PackageReference: BC-160-1; PackageDescription: 160-Ball Chip Scale Package Ball Grid Array [CSP_BGA]; Supplier 1: Digi-Key; Supplier Part Number 1: AD9735BBC-ND; Supplier 2: Mouser; Supplier Part Number 2: 584-AD9735BBC; Packing: Tray; RoHS: N; Mounting Technology: Surface Mount; Code_JEDEC: MO-205-AE; ComponentLink1Description: Manufacturer URL; ComponentLink1URL: http://www.analog.com/en/index.html; ComponentLink2Description: Datasheet; ComponentLink2URL: http://www.analog.com/static/imported-files/data_sheets/AD9734_9735_9736.pdf; ComponentLink3Description: Package Specification; ComponentLink3URL: http://www.analog.com/static/imported-files/packages/31243239490197BC_160_1.pdf; ComponentLink4Description: Product URL; ComponentLink4URL: http://www.analog.com/en/digital-to-analog-converters/da-converters/ad9735/products/product.html
footprint BC-160-1 (BGA, 160-Leads, Body 12x12mm, Pitch 0.8mm)
part A pins: A7 IOUTB (out) "DAC Negative Output. 10 mA to 30 mA full-scale output current.", A8 IOUTA (out) "DAC Positive Output. 10 mA to 30 mA full-scale output current.", B7 IOUTB (out) "DAC Negative Output. 10 mA to 30 mA full-scale output current.", B8 IOUTA (out) "DAC Positive Output. 10 mA to 30 mA full-scale output current.", C7 IOUTB (out) "DAC Negative Output. 10 mA to 30 mA full-scale output current.", C8 IOUTA (out) "DAC Positive Output. 10 mA to 30 mA full-scale output current.", D7 IOUTB (out) "DAC Negative Output. 10 mA to 30 mA full-scale output current.", D8 IOUTA (out) "DAC Positive Output. 10 mA to 30 mA full-scale output current.", K13 DB<11>- (in) "Negative Data Input Bit 11 (MSB). Conforms to IEEE-1596 reduced range link.", K14 DB<11>+ (in) "Positive Data Input Bit 11 (MSB). Conforms to IEEE-1596 reduced range link.", L13 DB<10>- (in) "Negative Data Input Bit 10. Conforms to IEEE-1596 reduced range link.", L14 DB<10>+ (in) "Positive Data Input Bit 10. Conforms to IEEE-1596 reduced range link.", M13 DB<9>- (in) "Negative Data Input Bit 9. Conforms to IEEE-1596 reduced range link.", M14 DB<9>+ (in) "Positive Data Input Bit 9. Conforms to IEEE-1596 reduced range link.", N2 DB<0>- (in) "Negative Data Input Bit 0 (LSB). Conforms to IEEE-1596 reduced range link.", N3 DB<1>- (in) "Negative Data Input Bit 1. Conforms to IEEE-1596 reduced range link.", N4 DB<2>- (in) "Negative Data Input Bit 2. Conforms to IEEE-1596 reduced range link.", N5 DB<3>- (in) "Negative Data Input Bit 3. Conforms to IEEE-1596 reduced range link.", N10 DB<4>- (in) "Negative Data Input Bit 4. Conforms to IEEE-1596 reduced range link.", N11 DB<5>- (in) "Negative Data Input Bit 5. Conforms to IEEE-1596 reduced range link.", N12 DB<6>- (in) "Negative Data Input Bit 6. Conforms to IEEE-1596 reduced range link.", N13 DB<7>- (in) "Negative Data Input Bit 7. Conforms to IEEE-1596 reduced range link.", N14 DB<8>- (in) "Negative Data Input Bit 8. Conforms to IEEE-1596 reduced range link.", P2 DB<0>+ (in) "Positive Data Input Bit 0 (LSB). Conforms to IEEE-1596 reduced range link.", P3 DB<1>+ (in) "Positive Data Input Bit 1. Conforms to IEEE-1596 reduced range link.", P4 DB<2>+ (in) "Positive Data Input Bit 2. Conforms to IEEE-1596 reduced range link.", P5 DB<3>+ (in) "Positive Data Input Bit 3. Conforms to IEEE-1596 reduced range link.", P10 DB<4>+ (in) "Positive Data Input Bit 4. Conforms to IEEE-1596 reduced range link.", P11 DB<5>+ (in) "Positive Data Input Bit 5. Conforms to IEEE-1596 reduced range link.", P12 DB<6>+ (in) "Positive Data Input Bit 6. Conforms to IEEE-1596 reduced range link.", P13 DB<7>+ (in) "Positive Data Input Bit 7. Conforms to IEEE-1596 reduced range link.", P14 DB<8>+ (in) "Positive Data Input Bit 8. Conforms to IEEE-1596 reduced range link."
part B pins: A14 DNC "Do Not Connect.", B14 I120 "Nominal 1.2 V Reference. Tie to analog ground via 10 kohm resistor to generate a 120 uA reference current.", C14 VREF (io) "Band Gap Voltage Reference I/O. Tie to analog ground via 1 nF capacitor; output impedance approximately 5 kohm.", D14 IPTAT "Factory Test Pin. Output current, proportional to absolute temperature, is approximately 10 uA at 25degreesC with a slope of approximately 20 nA/degreesC.", E1 DACCLK- (in) "Negative DAC Clock Input (DACCLK).", E13 IRQ/UNSIGNED (io) "If PIN_MODE = 0, IRQ: Active low open-drain interrupt request output, pull up to DVDD33 with 10 kohm resistor. If PIN_MODE = 1, UNSIGNED: Digital input pin where 0 = twos complement input data format, 1 = unsigned.", E14 RESET/PD (in) "If PIN_MODE = 0, RESET: 1 resets the AD9735. If PIN_MODE = 1, PD: 1 puts the AD9735 in the power-down state.", F1 DACCLK+ (in) "Positive DAC Clock Input (DACCLK).", F13 CSB/2x (in) "See the Serial Peripheral Interface section and the Pin Mode Operation section for pin description.", F14 SDIO/FIFO (io) "See the Pin Mode Operation section for pin description.", G13 SCLK/FSC0 (in) "See the Pin Mode Operation section for pin description.", G14 SDO/FSC1 (io) "See the Pin Mode Operation section for pin description.", L1 PIN_MODE (in) "0 = SPI Mode. SPI is enabled. 1 = PIN Mode. SPI is disabled; direct pin control.", M1 NC "No Connect.", M2 NC "No Connect.", N1 NC "No Connect.", N6 DATACLK_OUT- (out) "Negative Data Output Clock. Conforms to IEEE-1596 reduced range link.", N9 DATACLK_IN- (in) "Negative Data Input Clock. Conforms to IEEE-1596 reduced range link.", P1 NC "No Connect.", P6 DATACLK_OUT+ (out) "Positive Data Output Clock. Conforms to IEEE-1596 reduced range link.", P9 DATACLK_IN+ (in) "Positive Data Input Clock. Conforms to IEEE-1596 reduced range link."
part C pins: A1 CVDD18 (power) "1.8 V Clock Supply.", A2 CVDD18 (power) "1.8 V Clock Supply.", A3 CVDD18 (power) "1.8 V Clock Supply.", A12 AVDD33 (power) "3.3 V Analog Supply.", A13 AVDD33 (power) "3.3 V Analog Supply.", B1 CVDD18 (power) "1.8 V Clock Supply.", B2 CVDD18 (power) "1.8 V Clock Supply.", B3 CVDD18 (power) "1.8 V Clock Supply.", B12 AVDD33 (power) "3.3 V Analog Supply.", B13 AVDD33 (power) "3.3 V Analog Supply.", C1 CVDD18 (power) "1.8 V Clock Supply.", C2 CVDD18 (power) "1.8 V Clock Supply.", C3 CVDD18 (power) "1.8 V Clock Supply.", C12 AVDD33 (power) "3.3 V Analog Supply.", C13 AVDD33 (power) "3.3 V Analog Supply.", D2 CVDD18 (power) "1.8 V Clock Supply.", D3 CVDD18 (power) "1.8 V Clock Supply.", D12 AVDD33 (power) "3.3 V Analog Supply.", D13 AVDD33 (power) "3.3 V Analog Supply.", H1 DVDD18 (power) "1.8 V Digital Supply.", H2 DVDD18 (power) "1.8 V Digital Supply.", H3 DVDD18 (power) "1.8 V Digital Supply.", H4 DVDD18 (power) "1.8 V Digital Supply.", H11 DVDD18 (power) "1.8 V Digital Supply.", H12 DVDD18 (power) "1.8 V Digital Supply.", H13 DVDD18 (power) "1.8 V Digital Supply.", H14 DVDD18 (power) "1.8 V Digital Supply.", J1 DVDD18 (power) "1.8 V Digital Supply.", J2 DVDD18 (power) "1.8 V Digital Supply.", J3 DVDD18 (power) "1.8 V Digital Supply.", J4 DVDD18 (power) "1.8 V Digital Supply.", J11 DVDD18 (power) "1.8 V Digital Supply.", J12 DVDD18 (power) "1.8 V Digital Supply.", J13 DVDD18 (power) "1.8 V Digital Supply.", J14 DVDD18 (power) "1.8 V Digital Supply.", L7 DVDD33 (power) "3.3 V Digital Supply.", L8 DVDD33 (power) "3.3 V Digital Supply.", M7 DVDD33 (power) "3.3 V Digital Supply.", M8 DVDD33 (power) "3.3 V Digital Supply.", N7 DVDD33 (power) "3.3 V Digital Supply.", N8 DVDD33 (power) "3.3 V Digital Supply.", P7 DVDD33 (power) "3.3 V Digital Supply.", P8 DVDD33 (power) "3.3 V Digital Supply."
part D pins: A4 AVSS (power) "Analog Supply Ground.", A5 AVSS (power) "Analog Supply Ground.", A6 AVSS (power) "Analog Supply Ground.", A9 AVSS (power) "Analog Supply Ground.", A10 AVSS (power) "Analog Supply Ground.", A11 AVSS (power) "Analog Supply Ground.", B4 AVSS (power) "Analog Supply Ground.", B5 AVSS (power) "Analog Supply Ground.", B6 AVSS (power) "Analog Supply Ground.", B9 AVSS (power) "Analog Supply Ground.", B10 AVSS (power) "Analog Supply Ground.", B11 AVSS (power) "Analog Supply Ground.", C4 AVSS (power) "Analog Supply Ground.", C5 AVSS (power) "Analog Supply Ground.", C6 AVSS (power) "Analog Supply Ground.", C9 AVSS (power) "Analog Supply Ground.", C10 AVSS (power) "Analog Supply Ground.", C11 AVSS (power) "Analog Supply Ground.", D1 CVSS (power) "Clock Supply Ground.", D4 AVSS (power) "Analog Supply Ground.", D5 AVSS (power) "Analog Supply Ground.", D6 AVSS (power) "Analog Supply Ground.", D9 AVSS (power) "Analog Supply Ground.", D10 AVSS (power) "Analog Supply Ground.", D11 AVSS (power) "Analog Supply Ground.", E2 CVSS (power) "Clock Supply Ground.", E3 CVSS (power) "Clock Supply Ground.", E4 CVSS (power) "Clock Supply Ground.", E11 AVSS (power) "Analog Supply Ground Shield. Tie to AVSS at the DAC.", E12 AVSS (power) "Analog Supply Ground Shield. Tie to AVSS at the DAC.", F2 CVSS (power) "Clock Supply Ground.", F3 CVSS (power) "Clock Supply Ground.", F4 CVSS (power) "Clock Supply Ground.", F11 AVSS (power) "Analog Supply Ground Shield. Tie to AVSS at the DAC.", F12 AVSS (power) "Analog Supply Ground Shield. Tie to AVSS at the DAC.", G1 CVSS (power) "Clock Supply Ground.", G2 CVSS (power) "Clock Supply Ground.", G3 CVSS (power) "Clock Supply Ground.", G4 CVSS (power) "Clock Supply Ground.", G11 AVSS (power) "Analog Supply Ground Shield. Tie to AVSS at the DAC.", G12 AVSS (power) "Analog Supply Ground Shield. Tie to AVSS at the DAC.", K1 DVSS (power) "Digital Supply Ground.", K2 DVSS (power) "Digital Supply Ground.", K3 DVSS (power) "Digital Supply Ground.", K4 DVSS (power) "Digital Supply Ground.", K11 DVSS (power) "Digital Supply Ground.", K12 DVSS (power) "Digital Supply Ground.", L2 DVSS (power) "Digital Supply Ground.", L3 DVSS (power) "Digital Supply Ground.", L4 DVSS (power) "Digital Supply Ground.", L5 DVSS (power) "Digital Supply Ground.", L6 DVSS (power) "Digital Supply Ground.", L9 DVSS (power) "Digital Supply Ground.", L10 DVSS (power) "Digital Supply Ground.", L11 DVSS (power) "Digital Supply Ground.", L12 DVSS (power) "Digital Supply Ground.", M3 DVSS (power) "Digital Supply Ground.", M4 DVSS (power) "Digital Supply Ground.", M5 DVSS (power) "Digital Supply Ground.", M6 DVSS (power) "Digital Supply Ground.", M9 DVSS (power) "Digital Supply Ground.", M10 DVSS (power) "Digital Supply Ground.", M11 DVSS (power) "Digital Supply Ground.", M12 DVSS (power) "Digital Supply Ground."